# EAGLE library part B11B-XH (library con-JST XH)
JST XH series header 2.50mm pitch disconnectable crimp style connectors, vertical (side entry type), 11 pins
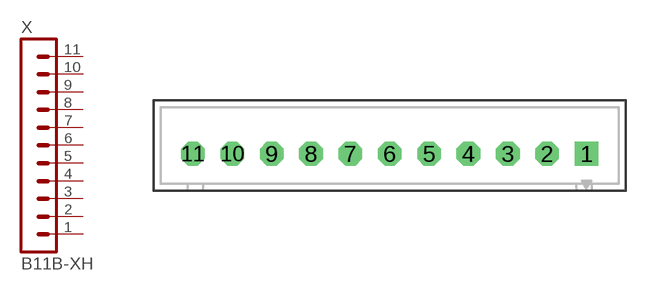
[diagram p5: symbol with the pads of B11B-XH-A; footprint B11B-XH-A]

Designator prefix X

## B11B-XH-A  [B11B-XH-A]
1  1  pas
2  2  pas
3  3  pas
4  4  pas
5  5  pas
6  6  pas
7  7  pas
8  8  pas
9  9  pas
10  10  pas
11  11  pas

## B11B-XH-2  [B11B-XH-A]
Pads as for B11B-XH-A

## Footprint B11B-XH-A (pad centres in mm)
JST XH series header 2.50mm pitch disconnectable crimp style connectors, vertical (top entry type), 11 pins
drill 0.9 pad 1.5 square: 1 12.5,0
drill 0.9 pad 1.5 octagon: 2 10,0; 3 7.5,0; 4 5,0; 5 2.5,0; 6 0,0; 7 -2.5,0; 8 -5,0; 9 -7.5,0; 10 -10,0; 11 -12.5,0